# Altium schematic symbol library Transistors.SchLib: 11 symbols
Pins are listed as number, name and electrical type; pins without a type are passive.

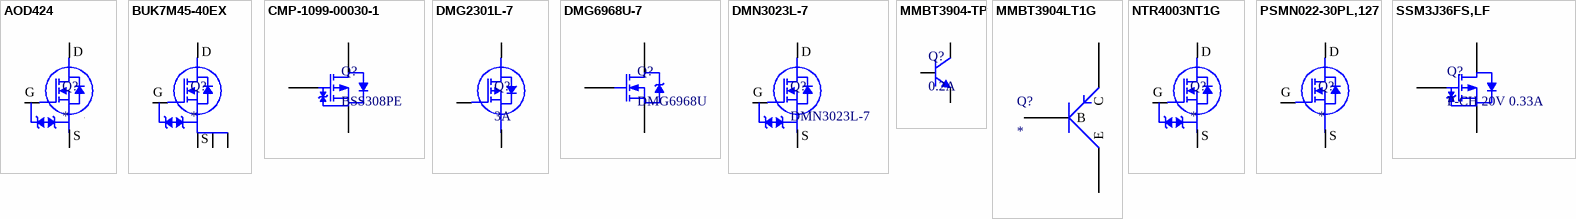
[diagram p0: symbols AOD424 to SSM3J36FS,LF]

## AOD424
designator Q?
MOSFET N-CH 20V 18A TO252; Manufacturer: Alpha & Omega Semiconductor; Manufacturer Part Number: AOD424; Rds On Max: 4.4mR; Input Capacitance: 4.63nF; Continuous Drain Current (ID): 45A; Max Power Dissipation: 2.5W; Supplier 1: Digi-Key; Supplier Part Number 1: 785-1565-1-ND; RoHS: Yes; Category: Transistors; Stock 1: 4998; Mount: Surface Mount; Case/Package: TO-252-3; Min Operating Temperature: -55°C; Max Operating Temperature: 175°C; Packaging: Tape and Reel; Drain to Source Voltage (Vdss): 20V; ComponentLink1URL: https://datasheet.ciiva.com/6384/aod424-6384722.pdf?src-supplier=Digi-Key; ComponentLink1Description: https://datasheet.ciiva.com/6384/aod424-6384722.pdf?src-supplier=Digi-Key; ComponentLink2URL: https://datasheet.ciiva.com/6384/aod424-6384725.pdf?src-supplier=Digi-Key; ComponentLink2Description: https://datasheet.ciiva.com/6384/aod424-6384725.pdf?src-supplier=Digi-Key
footprint TO-252
pins: 1 G, 2 NC, 3 S, 4 D

## BUK7M45-40EX
designator Q?
MOSFET N-CH 40V MLFPAK; Manufacturer: NXP Semiconductors; Manufacturer Part Number: BUK7M45-40EX; Continuous Drain Current (ID): 19A; Rds On Max: 45mR; Input Capacitance: 317pF; Max Power Dissipation: 31W; Supplier 1: Digi-Key; Supplier Part Number 1: 1727-2563-1-ND; RoHS: Yes; Category: MOSFETs; Stock 1: 280; Mount: Surface Mount; Min Operating Temperature: -55°C; Max Operating Temperature: 175°C; Packaging: Tape and Reel; Drain to Source Voltage (Vdss): 40V
footprint LFPAK33
pins: 1 S, 2 S, 3 S, 4 G, 5 D

## CMP-1099-00030-1
designator Q?, comment BSS308PE
P-Channel OptiMOS P3 Small-Signal-Transistor, -30 V VDS, -2 A ID, -55 to 150 degC, PG-SOT23, Reel, Green; Manufacturer: Infineon; RDS (on) (max) (@4.5V): 130Â mOhm; Pto t (max): 0.5Â W; ID (max): -2Â A; IDpuls (max): -8Â A; VDS (max): -30Â V; VGS(th) (min): -2Â V; Green: TRUE; RDS (on) (max): 80Â mOhm; QG: -5Â nC; Rth: 250Â K/W; VGS(th) (max): -1Â V; PartNumber: BSS308PE; ComponentLink3Description: Package Specification; PackageDescription: 3-Pin Small Outline Transistor Package, 2.9 x 1.3 mm Body, 0.95 mm Pitch; Mounting Technology: Surface Mount; Packing: Reel; PackageReference: PG-SOT23; PackageVersion: Apr-08; Halogen-free: TRUE; DatasheetVersion: Rev. 2.03; ComponentLink2URL: http://www.infineon.com/dgdl/BSS308PE_Rev23_.pdf?folderId=db3a304314dca38901154a72e3951a65&fileId=db3a304330f686060131099c80400073; ComponentLink2Description: Datasheet; ComponentLink1Description: Manufacturer URL; ComponentLink1URL: http://www.infineon.com/; ComponentLink3URL: http://www.infineon.com/dgdl/SOT23-Package_Overview.pdf?folderId=db3a30431936bc4b0119532290053c66&fileId=db3a30431936bc4b0119533468123c85
footprint SOT-23-3
pins: 1 GATE, 2 SOURCE, 3 DRAIN

## DMG2301L-7
designator Q?, comment 3A
MOSFET Transistor, P Channel, -3 A, -20 V, 0.12 ohm, -4.5 V, 1.2 V; Manufacturer: Diodes; Manufacturer Part Number: DMG2301L-7; Drain to Source Voltage (Vdss): 20V; Rds On Max: 120mR; Input Capacitance: 476pF; Max Power Dissipation: 1.5W; Supplier 1: Digi-Key; Supplier Part Number 1: DMG2301L-7DICT-ND; RoHS: Yes; Category: MOSFETs; Stock 1: 17976; Mount: Surface Mount; Case/Package: TO-236-3; Min Operating Temperature: -55°C; Max Operating Temperature: 150°C; Packaging: Tape and Reel; Continuous Drain Current (ID): 3A; ComponentLink1URL: http://www.farnell.com/datasheets/2814385.pdf?src-supplier=Farnell; ComponentLink1Description: http://www.farnell.com/datasheets/2814385.pdf?src-supplier=Farnell; ComponentLink2URL: http://www.mouser.com/ds/2/115/DMG2301L-959562.pdf?src-supplier=Mouser; ComponentLink2Description: http://www.mouser.com/ds/2/115/DMG2301L-959562.pdf?src-supplier=Mouser; ComponentLink3URL: https://www.diodes.com/assets/Datasheets/DMG2301L.pdf?src-supplier=Digi-Key; ComponentLink3Description: https://www.diodes.com/assets/Datasheets/DMG2301L.pdf?src-supplier=Digi-Key; ComponentLink4URL: http://www.farnell.com/datasheets/2814385.pdf?src-supplier=Newark; ComponentLink4Description: http://www.farnell.com/datasheets/2814385.pdf?src-supplier=Newark; ComponentLink5URL: http://www.farnell.com/datasheets/2814385.pdf?src-supplier=Element14; ComponentLink5Description: http://www.farnell.com/datasheets/2814385.pdf?src-supplier=Element14
footprint SOT-23-3
pins: 1 G, 2 S, 3 D

## DMG6968U-7
designator Q?, comment DMG6968U
MOSFET N-CH 20V 6.5A SOT-23; Manufacturer: Diodes; Manufacturer Part Number: DMG6968U-7; Nominal Vgs: 500mV; Input Capacitance: 151pF; Max Power Dissipation: 1.3W; Number of Elements: 1; Rise Time: 66ns; Rds On Max: 25mR; Turn-Off Delay Time: 613ns; Turn-On Delay Time: 54ns; Fall Time: 205ns; Element Configuration: Single; Gate to Source Voltage (Vgs): 12V; On-State Resistance: 36mR; Supplier 1: Digi-Key; Supplier Part Number 1: DMG6968UDICT-ND; Stock 1: 169109; Pricing 1: 1 = 0.59000, 10 = 0.41800, 100 = 0.27420, 500 = 0.16202, 1000 = 0.12463 (USD); RoHS: Yes; Mount: Surface Mount; Case/Package: SOT-23; Number of Pins: 3; Weight: 0.000282oz; Min Operating Temperature: -55°C; Max Operating Temperature: 150°C; Packaging: Tape and Reel; Package Quantity: 3000; Drain to Source Voltage (Vdss): 20V; Continuous Drain Current (ID): 6.5A; Drain to Source Breakdown Voltage: 20V; Drain to Source Resistance: 25mR; Power Dissipation: 1.3W; Threshold Voltage: 500mV; Number of Channels: 1; Length: 2.9mm; Height: 1mm; Width: 1.3mm; Radiation Hardening: No; REACH SVHC: No SVHC; Lead Free: Lead Free; ComponentLink1URL: https://datasheet.ciiva.com/5774/ds31738-5774992.pdf?src-supplier=Farnell; ComponentLink1Description: https://datasheet.ciiva.com/5774/ds31738-5774992.pdf?src-supplier=Farnell; ComponentLink2URL: https://datasheet.ciiva.com/26789/dmg6968u-7-26789941.pdf?src-supplier=IIIC; ComponentLink2Description: https://datasheet.ciiva.com/26789/dmg6968u-7-26789941.pdf?src-supplier=IIIC; ComponentLink3URL: https://datasheet.ciiva.com/935/ds31738-935016.pdf?src-supplier=Digi-Key; ComponentLink3Description: https://datasheet.ciiva.com/935/ds31738-935016.pdf?src-supplier=Digi-Key; ComponentLink4URL: https://datasheet.ciiva.com/935/ds31738-935018.pdf?src-supplier=Digi-Key; ComponentLink4Description: https://datasheet.ciiva.com/935/ds31738-935018.pdf?src-supplier=Digi-Key; ComponentLink5URL: https://datasheet.ciiva.com/935/ds31738-935017.pdf?src-supplier=Digi-Key; ComponentLink5Description: https://datasheet.ciiva.com/935/ds31738-935017.pdf?src-supplier=Digi-Key; ComponentLink6URL: https://datasheet.ciiva.com/22712/1915638-22712395.pdf?src-supplier=Element14; ComponentLink6Description: https://datasheet.ciiva.com/22712/1915638-22712395.pdf?src-supplier=Element14; Category: Discrete Semiconductor Products
footprint MOSFET DMG6968UDICT-ND
pins: 1 G, 2 D, 3 S

## DMN3023L-7
designator Q?
N-Channel 30V 6.2A (Ta) 900mW (Ta) Surface Mount SOT-23; Supplier 1: Digikey; Supplier 1 Part Number: DMN3023L-7DICT-ND; ComponentLink1Description: Digikey; ComponentLink1URL: https://www.digikey.ca/product-detail/en/diodes-incorporated/DMN3023L-7/DMN3023L-7DICT-ND/5453155
footprint SOT-23-3
pins: 1 G, 2 S, 3 D

## MMBT3904-TP
designator Q?, comment 0.2A
TRANS NPN 40V 0.2A SOT23; Manufacturer: MCC; Manufacturer Part Number: MMBT3904-TP; Current Rating: 100mA; Max Power Dissipation: 350mW; Number of Elements: 1; hFE Min: 40; Frequency: 300MHz; Element Configuration: Single; Max Collector Current: 200mA; Collector Base Voltage (VCBO): 60V; Emitter Base Voltage (VEBO): 6V; Collector Emitter Saturation Voltage: 300mV; Supplier 1: Digi-Key; Supplier Part Number 1: MMBT3904TPMSCT-ND; RoHS: Yes; Category: BJTs; Stock 1: 1134669; Mount: Surface Mount; Case/Package: SOT-23; Number of Pins: 3; Min Operating Temperature: -55°C; Max Operating Temperature: 150°C; Voltage Rating (DC): 40V; Package Quantity: 1; Collector Emitter Voltage (VCEO): 40V; Packaging: Tape and Reel; Gain Bandwidth Product: 300MHz; Transition Frequency: 300MHz; Collector Emitter Breakdown Voltage: 40V; Polarity: NPN; Max Breakdown Voltage: 40V; Power Dissipation: 350mW; Max Frequency: 300MHz; Length: 3.04mm; Height: 1.12mm; Width: 1.4mm; Radiation Hardening: No; Lead Free: Lead Free; ComponentLink1URL: https://datasheet.ciiva.com/972/mmbt3904sot-23-972515.pdf?src-supplier=Digi-Key; ComponentLink1Description: https://datasheet.ciiva.com/972/mmbt3904sot-23-972515.pdf?src-supplier=Digi-Key; ComponentLink2URL: https://datasheet.ciiva.com/16291/mmbt3904sot-23-37005-16291911.pdf?src-supplier=Mouser; ComponentLink2Description: https://datasheet.ciiva.com/16291/mmbt3904sot-23-37005-16291911.pdf?src-supplier=Mouser; ComponentLink3URL: https://datasheet.ciiva.com/15139/getdatasheetpartid-251950-15139820.pdf?src-supplier=Verical; ComponentLink3Description: https://datasheet.ciiva.com/15139/getdatasheetpartid-251950-15139820.pdf?src-supplier=Verical; ComponentLink4URL: https://datasheet.ciiva.com/972/mmbt3904sot-23-972516.pdf?src-supplier=Digi-Key; ComponentLink4Description: https://datasheet.ciiva.com/972/mmbt3904sot-23-972516.pdf?src-supplier=Digi-Key; ComponentLink5URL: https://datasheet.ciiva.com/14546/70055699-14546053.pdf?src-supplier=Allied+Electronics; ComponentLink5Description: https://datasheet.ciiva.com/14546/70055699-14546053.pdf?src-supplier=Allied+Electronics; ComponentLink6URL: https://datasheet.ciiva.com/16742/mmbt3904tsot-523-16742101.pdf?src-supplier=Future+Electronics; ComponentLink6Description: https://datasheet.ciiva.com/16742/mmbt3904tsot-523-16742101.pdf?src-supplier=Future+Electronics
footprint SOT-23-3
pins: 1 B, 2 E, 3 C

## MMBT3904LT1G
designator Q?
Transistor, Bipolar, Si, NPN, General Purpose, VCEO 40VDC, IC 200mA, PD 225mW, SOT-23; Manufacturer: ON Semiconductor; Manufacturer Part Number: MMBT3904LT1G; Max Power Dissipation: 300mW; Number of Elements: 1; Frequency: 300MHz; hFE Min: 100; Collector Emitter Voltage (VCEO): 40V; Collector Base Voltage (VCBO): 60V; Emitter Base Voltage (VEBO): 6V; Collector Emitter Saturation Voltage: 300mV; Element Configuration: Single; Supplier 1: Digi-Key; RoHS: Yes; Category: BJTs; Stock 1: 1662424; Pricing 1: 1=0.12000, 10=0.11200, 25=0.10640, 100=0.04680, 250=0.04488, 500=0.03672, 1000=0.02550 (USD); Case/Package: SOT-23-3; Number of Pins: 3; Contact Plating: Tin,Matte; Min Operating Temperature: -55°C; Max Operating Temperature: 150°C; Package Quantity: 1; Packaging: Tape and Reel; Max Collector Current: 200mA; Transition Frequency: 300MHz; Polarity: NPN; Collector Emitter Breakdown Voltage: 40V; Max Breakdown Voltage: 40V; Power Dissipation: 300mW; Gain Bandwidth Product: 300MHz; Max Frequency: 300MHz; Voltage Rating (DC): 40V; Current Rating: 200mA; Type: General Purpose; Length: 2.9mm; Height: 0.94mm; Width: 1.3mm; Radiation Hardening: No; REACH SVHC: No SVHC; Lead Free: Lead Free; ComponentLink1URL: https://datasheet.ciiva.com/16199/mmbt3904lt1-d-16199009.pdf?src-supplier=Future+Electronics; ComponentLink1Description: https://datasheet.ciiva.com/16199/mmbt3904lt1-d-16199009.pdf?src-supplier=Future+Electronics; ComponentLink2URL: https://datasheet.ciiva.com/4723/mmbt3904lt1-d-113169-4723050.pdf?src-supplier=Mouser; ComponentLink2Description: https://datasheet.ciiva.com/4723/mmbt3904lt1-d-113169-4723050.pdf?src-supplier=Mouser; ComponentLink3URL: https://datasheet.ciiva.com/15138/getdatasheetpartid-53263-15138779.pdf?src-supplier=Verical; ComponentLink3Description: https://datasheet.ciiva.com/15138/getdatasheetpartid-53263-15138779.pdf?src-supplier=Verical; ComponentLink4URL: https://datasheet.ciiva.com/11199/mmbt3904lt1-d-11199003.pdf?src-supplier=Avnet; ComponentLink4Description: https://datasheet.ciiva.com/11199/mmbt3904lt1-d-11199003.pdf?src-supplier=Avnet; ComponentLink5URL: https://datasheet.ciiva.com/976/mmbt3904lt1-d-976364.pdf?src-supplier=Digi-Key; ComponentLink5Description: https://datasheet.ciiva.com/976/mmbt3904lt1-d-976364.pdf?src-supplier=Digi-Key; ComponentLink6URL: https://datasheet.ciiva.com/14546/70099530-14546188.pdf?src-supplier=Allied+Electronics; ComponentLink6Description: https://datasheet.ciiva.com/14546/70099530-14546188.pdf?src-supplier=Allied+Electronics; ComponentLink7URL: https://datasheet.ciiva.com/7972/1708269-7972381.pdf?src-supplier=Element14; ComponentLink7Description: https://datasheet.ciiva.com/7972/1708269-7972381.pdf?src-supplier=Element14; ComponentLink8URL: https://datasheet.ciiva.com/22664/1708269-22664159.pdf?src-supplier=Element14; ComponentLink8Description: https://datasheet.ciiva.com/22664/1708269-22664159.pdf?src-supplier=Element14; ComponentLink9URL: https://datasheet.ciiva.com/976/mmbt3904lt1-d-976362.pdf?src-supplier=Digi-Key; ComponentLink9Description: https://datasheet.ciiva.com/976/mmbt3904lt1-d-976362.pdf?src-supplier=Digi-Key; ComponentLink10URL: https://datasheet.ciiva.com/16478/mmbt3904lt1-d-16478538.pdf?src-supplier=Avnet+Asia; ComponentLink10Description: https://datasheet.ciiva.com/16478/mmbt3904lt1-d-16478538.pdf?src-supplier=Avnet+Asia; ComponentLink11URL: https://datasheet.ciiva.com/976/mmbt3904lt1-d-976363.pdf?src-supplier=Digi-Key; ComponentLink11Description: https://datasheet.ciiva.com/976/mmbt3904lt1-d-976363.pdf?src-supplier=Digi-Key; Supplier Part Number 1: MMBT3904LT1GOSCT-ND
footprint SOT-23-3
pins: 1 B, 2 E, 3 C

## NTR4003NT1G
designator Q?
N CHANNEL MOSFET, 30V, 560mA SOT-23, FULL REEL; Transistor Polarity:N Channel; Continuous Drain Current Id:560 A; Drain Source Voltage Vds:30V; On Resistance Rds(on):1.5ohm; Rds(on) Test Voltage Vgs:4V; Threshold Voltage Vgs:1.4V ;RoHS Compliant: Yes; Manufacturer: ON Semiconductor; Manufacturer Part Number: NTR4003NT1G; Continuous Drain Current (ID): 500mA; Fall Time: 47.9ns; Power Dissipation: 690mW; Drain to Source Resistance: 1R; Turn-Off Delay Time: 65.1ns; Threshold Voltage: 1.4V; Turn-On Delay Time: 16.7ns; Input Capacitance: 21pF; Number of Elements: 1; Rds On Max: 1.5R; Element Configuration: Single; Gate to Source Voltage (Vgs): 20V; Supplier 1: Digi-Key; Supplier Part Number 1: NTR4003NT1GOSCT-ND; RoHS: Yes; Category: MOSFETs; Stock 1: 309; Case/Package: SOT-23-3; Number of Pins: 3; Contact Plating: Tin,Matte; Min Operating Temperature: -55°C; Max Operating Temperature: 150°C; Drain to Source Breakdown Voltage: 30V; Nominal Vgs: 1.4V; Rise Time: 47.9ns; Max Power Dissipation: 690mW; Package Quantity: 1; Packaging: Tape and Reel; On-State Resistance: 1R; Length: 3.04mm; Height: 1.01mm; Width: 1.4mm; Radiation Hardening: No; Lead Free: Lead Free; REACH SVHC: No SVHC; ComponentLink1URL: https://datasheet.ciiva.com/26144/ntr4003n-d-26144544.pdf?src-supplier=Avnet+Europe; ComponentLink1Description: https://datasheet.ciiva.com/26144/ntr4003n-d-26144544.pdf?src-supplier=Avnet+Europe; ComponentLink2URL: https://datasheet.ciiva.com/5751/86005-5751936.pdf?src-supplier=Farnell; ComponentLink2Description: https://datasheet.ciiva.com/5751/86005-5751936.pdf?src-supplier=Farnell; ComponentLink3URL: https://datasheet.ciiva.com/30479/0900766b8120606c-30479654.pdf?src-supplier=RSComponents; ComponentLink3Description: https://datasheet.ciiva.com/30479/0900766b8120606c-30479654.pdf?src-supplier=RSComponents; ComponentLink4URL: https://datasheet.ciiva.com/30479/0900766b8120606c-30479655.pdf?src-supplier=RSComponents; ComponentLink4Description: https://datasheet.ciiva.com/30479/0900766b8120606c-30479655.pdf?src-supplier=RSComponents; ComponentLink5URL: https://datasheet.ciiva.com/936/ntr4003n-d-936807.pdf?src-supplier=Digi-Key; ComponentLink5Description: https://datasheet.ciiva.com/936/ntr4003n-d-936807.pdf?src-supplier=Digi-Key; ComponentLink6URL: https://datasheet.ciiva.com/8114/ntr4003n-d-8114935.pdf?src-supplier=Avnet; ComponentLink6Description: https://datasheet.ciiva.com/8114/ntr4003n-d-8114935.pdf?src-supplier=Avnet; ComponentLink7URL: https://datasheet.ciiva.com/936/ntr4003n-d-936808.pdf?src-supplier=Digi-Key; ComponentLink7Description: https://datasheet.ciiva.com/936/ntr4003n-d-936808.pdf?src-supplier=Digi-Key; ComponentLink8URL: https://datasheet.ciiva.com/936/ntr4003n-d-936809.pdf?src-supplier=Digi-Key; ComponentLink8Description: https://datasheet.ciiva.com/936/ntr4003n-d-936809.pdf?src-supplier=Digi-Key; ComponentLink9URL: https://datasheet.ciiva.com/8059/86005-8059403.pdf?src-supplier=Element14; ComponentLink9Description: https://datasheet.ciiva.com/8059/86005-8059403.pdf?src-supplier=Element14; ComponentLink10URL: https://datasheet.ciiva.com/8059/86005-8059404.pdf?src-supplier=Element14; ComponentLink10Description: https://datasheet.ciiva.com/8059/86005-8059404.pdf?src-supplier=Element14; ComponentLink11URL: https://datasheet.ciiva.com/22656/86005-22656046.pdf?src-supplier=Farnell; ComponentLink11Description: https://datasheet.ciiva.com/22656/86005-22656046.pdf?src-supplier=Farnell
footprint SOT-23-3
pins: 1 G, 2 S, 3 D

## PSMN022-30PL,127
designator Q?
NEXPERIA - PSMN022-30PL,127 - MOSFET, N CHANNEL, 30V, 30A, 3-TO-220AB; Supplier 1: Digi-Key; Supplier Part Number 1: 1727-5893-ND; Manufacturer: Nexperia; Manufacturer Part Number: PSMN022-30PL,127; RoHS: No; Stock 1: 15631; ComponentLink1URL: http://www.farnell.com/datasheets/655077.pdf?src-supplier=Newark; ComponentLink1Description: http://www.farnell.com/datasheets/655077.pdf?src-supplier=Newark
footprint TO-220
pins: 1 G, 2 D, 3 S

## SSM3J36FS,LF
designator Q?, comment P-CH 20V 0.33A
MOSFET P-CH 20V 0.33A SSM; Manufacturer: Toshiba; Manufacturer Part Number: SSM3J36FS,LF; Continuous Drain Current (ID): 330mA; Max Power Dissipation: 150mW; Input Capacitance: 43pF; Rds On Max: 1.31R; Supplier 1: Digi-Key; RoHS: Yes; Category: MOSFETs; Stock 1: 7789; Pricing 1: 1=0.28000, 10=0.22600, 25=0.18920, 100=0.09240, 250=0.09092, 500=0.07708, 1000=0.05355 (USD); Mount: Surface Mount; Drain to Source Voltage (Vdss): 20V; Packaging: Tape and Reel; ComponentLink1URL: https://datasheet.ciiva.com/41860/ssm3j36fs-datasheet-en-20140301-41860074.pdf?src-supplier=Digi-Key; ComponentLink1Description: https://datasheet.ciiva.com/41860/ssm3j36fs-datasheet-en-20140301-41860074.pdf?src-supplier=Digi-Key; ComponentLink2URL: https://datasheet.ciiva.com/41860/ssm3j36fs-datasheet-en-20140301-41860075.pdf?src-supplier=Digi-Key; ComponentLink2Description: https://datasheet.ciiva.com/41860/ssm3j36fs-datasheet-en-20140301-41860075.pdf?src-supplier=Digi-Key; Supplier Part Number 1: SSM3J36FSLFCT-ND
footprint SOT-416
pins: 1 GATE, 2 SOURCE, 3 DRAIN